# Altium schematic symbol library SchLib.SCHLIB: 65 symbols
Pins are listed as number, name and electrical type; pins without a type are passive.

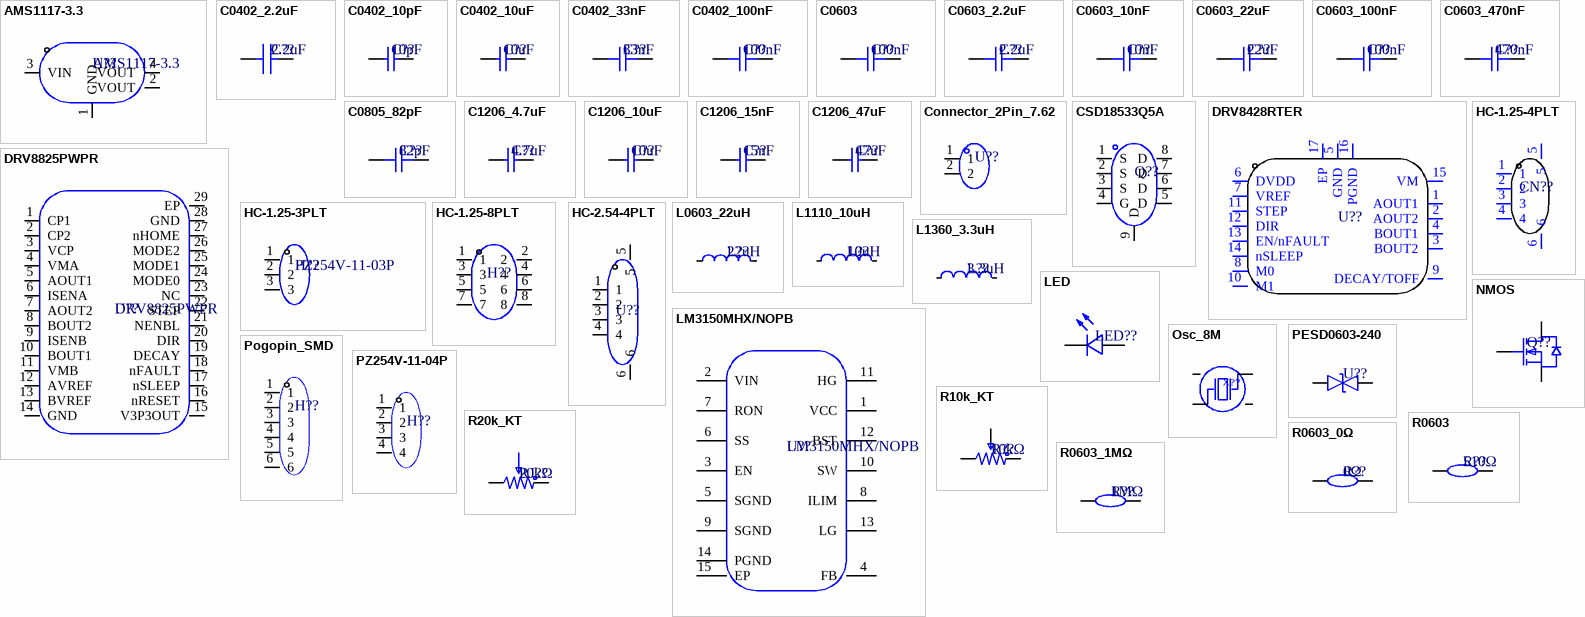
[diagram p0: symbols AMS1117-3.3 to R0603_1MΩ]

## AMS1117-3.3
designator U??
5V-3.3V; Manufacturer: AMS; Device: AMS1117-3.3_C6186; Add into BOM: yes; Output Type: 固定; Output Voltage: 3.3V; MAX Output Current: 1A; Power Supply Rejection Ratio (PSRR): 72dB@(120Hz); Dropout Voltage: 1.3V@(800mA); Output Polarity: 正极; Number of Outputs: 1; Symbol: AMS1117-3.3; LCSC Part Name: 输出3.3V 1A; Supplier Part: C6186; Manufacturer Part: AMS1117-3.3; Supplier Footprint: SOT-223; JLCPCB Part Class: Basic Part; Datasheet: https://atta.szlcsc.com/upload/public/pdf/source/20180727/C6186_7A095716F0823C02F1997A905E26C086.pdf; Supplier: LCSC; Convert to PCB: yes; Maximum Input Voltage: -; standby current: -; Noise: -; Feature: -; Operating Temperature: -; Comment_1: AMS1117-3.3
footprint AMS1117-3.3 (SOT-223-3_L6.5-W3.4-P2.30-LS7.0-BR)
pins: 1 GND, 2 VOUT, 3 VIN, 4 VOUT

## C0402_2.2uF
designator C??, comment 2.2uF
容值 2.2uF   精度 ±20%   额定电压 6.3V   材质(温度系数) X5R; Manufacturer: SAMSUNG(三星); Symbol: CL05A225MQ5NSNC; Add into BOM: yes; Device: CL05A225MQ5NSNC; LCSC Part Name: 2.2uF ±20% 6.3V; Supplier Part: C12530; Manufacturer Part: CL05A225MQ5NSNC; Supplier Footprint: 0402; JLCPCB Part Class: Basic Part; Datasheet: https://atta.szlcsc.com/upload/public/pdf/source/20160218/1457707763339.pdf; Supplier: LCSC; Convert to PCB: yes; Value: 2.2uF; Tolerance: ±20%; Voltage Rated: 6.3V; Temperature Coefficient: X5R; Comment_1: 2.2uF
footprint C0402_2.2uF (C0402)
pins: 1, 2

## C0402_10pF
designator C??, comment 10pF
0402电容; Manufacturer: FH(风华); Symbol: 0402CG100J500NT; Add into BOM: yes; Tolerance: ±5%; Voltage Rated: 50V; Temperature Coefficient: C0G; Device: 0402CG100J500NT; LCSC Part Name: 10pF ±5% 50V; Supplier Part: C1545; Manufacturer Part: 0402CG100J500NT; Supplier Footprint: 0402; JLCPCB Part Class: Extended Part; Datasheet: https://atta.szlcsc.com/upload/public/pdf/source/20200305/C486355_26A10D38EF8C2A5C37091D0039909270.pdf; Supplier: LCSC; Convert to PCB: yes; Value: 10pF; Comment_1: 10pF
footprint C0402_2.2uF (C0402)
pins: 1, 2

## C0402_10uF
designator C??, comment 10uF
0402电容; Manufacturer: SAMSUNG(三星); Symbol: CL05A106MQ5NUNC; Add into BOM: yes; Tolerance: ±20%; Voltage Rated: 6.3V; Temperature Coefficient: X5R; Device: CL05A106MQ5NUNC; LCSC Part Name: 10uF ±20% 6.3V; Supplier Part: C15525; Manufacturer Part: CL05A106MQ5NUNC; Supplier Footprint: 0402; JLCPCB Part Class: Basic Part; Datasheet: https://atta.szlcsc.com/upload/public/pdf/source/20220823/2B02EE04F8F211D38A52DCB16EB6BEBA.pdf; Supplier: LCSC; Convert to PCB: yes; Value: 10uF; Comment_1: 10uF
footprint C0402_2.2uF (C0402)
pins: 1, 2

## C0402_33nF
designator C??, comment 33nF
0402电容; Manufacturer: FOJAN(富捷); Symbol: GRM155R71H104KE14D; Add into BOM: yes; Tolerance: ±10%; Voltage Rated: 50V; Temperature Coefficient: X7R; Device: GRM155R71H104KE14D; LCSC Part Name: 33nF ±10% 50V; Supplier Part: C7419416; Manufacturer Part: GRM155R71H104KE14D; Supplier Footprint: 0402; JLCPCB Part Class: Extended Part; Datasheet: https://atta.szlcsc.com/upload/public/pdf/source/20180326/C77020_39BD49C951FF1AF0DB1F1FAC5AC1E401.pdf; Supplier: LCSC; Convert to PCB: yes; Value: 33nF; Comment_1: 33nF
footprint C0402_2.2uF (C0402)
pins: 1, 2

## C0402_100nF
designator C??, comment 100nF
0402电容; Manufacturer: muRata(村田); Symbol: GRM155R71H104KE14D; Add into BOM: yes; Tolerance: ±10%; Voltage Rated: 50V; Temperature Coefficient: X7R; Device: GRM155R71H104KE14D; LCSC Part Name: 100nF ±10% 50V; Supplier Part: C77020; Manufacturer Part: GRM155R71H104KE14D; Supplier Footprint: 0402; JLCPCB Part Class: Extended Part; Datasheet: https://atta.szlcsc.com/upload/public/pdf/source/20180326/C77020_39BD49C951FF1AF0DB1F1FAC5AC1E401.pdf; Supplier: LCSC; Convert to PCB: yes; Value: 100nF; Comment_1: 100nF
footprint C0402_2.2uF (C0402)
pins: 1, 2

## C0603
designator C??, comment 100nF
0603电容; Manufacturer: YAGEO(国巨); Symbol: CC0603KRX7R9BB104; Add into BOM: yes; Tolerance: ±10%; Voltage Rated: 50V; Temperature Coefficient: X7R; Name: 100nF; Device: CC0603KRX7R9BB104; LCSC Part Name: 100nF ±10% 50V; Supplier Part: C14663; Manufacturer Part: CC0603KRX7R9BB104; Supplier Footprint: 0603; JLCPCB Part Class: Basic Part; Datasheet: https://atta.szlcsc.com/upload/public/pdf/source/20180910/C282072_33301C7F631E79921B82A8DAC6BCC5B3.pdf; Supplier: LCSC; Convert to PCB: yes; Value: 100nF
footprint C0603
footprint C0603
pins: 1, 2

## C0603_2.2uF
designator C??, comment 2.2uF
0603电容; Manufacturer: SAMSUNG(三星); Symbol: CC0603KRX7R9BB104; Add into BOM: yes; Tolerance: ±10%; Voltage Rated: 16V; Temperature Coefficient: X5R; Name: 2.2uF; Device: CC0603KRX7R9BB104; LCSC Part Name: 2.2uF ±10% 16V; Supplier Part: C23630; Manufacturer Part: CC0603KRX7R9BB104; Supplier Footprint: 0603; JLCPCB Part Class: Basic Part; Datasheet: https://atta.szlcsc.com/upload/public/pdf/source/20180910/C282072_33301C7F631E79921B82A8DAC6BCC5B3.pdf; Supplier: LCSC; Convert to PCB: yes; Value: 2.2uF
footprint C0603
footprint C0603
pins: 1, 2

## C0603_10nF
designator C??, comment 10nF
0603电容; Manufacturer: SAMSUNG(三星); Symbol: CC0603KRX7R9BB104; Add into BOM: yes; Tolerance: ±10%; Voltage Rated: 50V; Temperature Coefficient: X7R; Name: 10nF; Device: CC0603KRX7R9BB104; LCSC Part Name: 10nF ±10% 50V; Supplier Part: C100042; Manufacturer Part: CC0603KRX7R9BB104; Supplier Footprint: 0603; JLCPCB Part Class: Basic Part; Datasheet: https://atta.szlcsc.com/upload/public/pdf/source/20180910/C282072_33301C7F631E79921B82A8DAC6BCC5B3.pdf; Supplier: LCSC; Convert to PCB: yes; Value: 10nF
footprint C0603
footprint C0603
pins: 1, 2

## C0603_22uF
designator C??, comment 22uF
0603电容; Manufacturer: SAMSUNG(三星); Symbol: CC0603KRX7R9BB104; Add into BOM: yes; Tolerance: ±20%; Voltage Rated: 16V; Temperature Coefficient: X5R; Name: 22uF; Device: CC0603KRX7R9BB104; LCSC Part Name: 22uF ±20% 16V; Supplier Part: C6119868; Manufacturer Part: CC0603KRX7R9BB104; Supplier Footprint: 0603; JLCPCB Part Class: Basic Part; Datasheet: https://atta.szlcsc.com/upload/public/pdf/source/20180910/C282072_33301C7F631E79921B82A8DAC6BCC5B3.pdf; Supplier: LCSC; Convert to PCB: yes; Value: 22uF
footprint C0603
footprint C0603
pins: 1, 2

## C0603_100nF
designator C??, comment 100nF
0603电容; Manufacturer: SAMSUNG(三星); Symbol: CC0603KRX7R9BB104; Add into BOM: yes; Tolerance: ±10%; Voltage Rated: 50V; Temperature Coefficient: X7R; Name: 100nF; Device: CC0603KRX7R9BB104; LCSC Part Name: 100nF ±10% 50V; Supplier Part: C6119867; Manufacturer Part: CC0603KRX7R9BB104; Supplier Footprint: 0603; JLCPCB Part Class: Basic Part; Datasheet: https://atta.szlcsc.com/upload/public/pdf/source/20180910/C282072_33301C7F631E79921B82A8DAC6BCC5B3.pdf; Supplier: LCSC; Convert to PCB: yes; Value: 100nF
footprint C0603
footprint C0603
pins: 1, 2

## C0603_470nF
designator C??, comment 470nF
0603电容; Manufacturer: SAMSUNG(三星); Symbol: CC0603KRX7R9BB104; Add into BOM: yes; Tolerance: ±10%; Voltage Rated: 25V; Temperature Coefficient: X7R; Name: 470nF; Device: CC0603KRX7R9BB104; LCSC Part Name: 470nF ±10% 25V; Supplier Part: C1623; Manufacturer Part: CC0603KRX7R9BB104; Supplier Footprint: 0603; JLCPCB Part Class: Basic Part; Datasheet: https://atta.szlcsc.com/upload/public/pdf/source/20180910/C282072_33301C7F631E79921B82A8DAC6BCC5B3.pdf; Supplier: LCSC; Convert to PCB: yes; Value: 470nF
footprint C0603
footprint C0603
pins: 1, 2

## C0805_82pF
designator C??, comment 82pF
0805电容; Manufacturer: YAGEO(国巨); Symbol: CC0805FRNPO9BN820; Add into BOM: yes; Tolerance: ±1%; Voltage Rated: 50V; Temperature Coefficient: NP0; Device: CC0805FRNPO9BN820; LCSC Part Name: 82pF ±1% 50V; Supplier Part: C527189; Manufacturer Part: CC0805FRNPO9BN820; Supplier Footprint: 0805; JLCPCB Part Class: Extended Part; Datasheet: https://atta.szlcsc.com/upload/public/pdf/source/20200508/C527189_AF3BD45761C292EB11165A31B5122D16.pdf; Supplier: LCSC; Convert to PCB: yes; Value: 82pF; Comment_1: 82pF
footprint C0805
pins: 1, 2

## C1206_4.7uF
designator C??, comment 4.7uF
1206电容; Manufacturer: SAMSUNG(三星); Symbol: CL31B475KBHNNNE; Add into BOM: yes; Tolerance: ±10%; Voltage Rated: 50V; Temperature Coefficient: X7R; Device: CL31B475KBHNNNE; LCSC Part Name: 4.7uF ±10% 50V; Supplier Part: C51205; Manufacturer Part: CL31B475KBHNNNE; Supplier Footprint: 1206; JLCPCB Part Class: Extended Part; Datasheet: https://atta.szlcsc.com/upload/public/pdf/source/20160218/1457707763339.pdf; Supplier: LCSC; Convert to PCB: yes; Value: 4.7uF; Comment_1: 4.7uF
footprint C1206
pins: 1, 2

## C1206_10uF
designator C??, comment 10uF
1206电容; Manufacturer: SAMSUNG(三星); Symbol: CL31B475KBHNNNE; Add into BOM: yes; Tolerance: ±10%; Voltage Rated: 50V; Temperature Coefficient: X7R; Device: CL31B475KBHNNNE; LCSC Part Name: 10uF ±10% 50V; Supplier Part: C89632; Manufacturer Part: CL31B475KBHNNNE; Supplier Footprint: 1206; JLCPCB Part Class: Extended Part; Datasheet: https://atta.szlcsc.com/upload/public/pdf/source/20160218/1457707763339.pdf; Supplier: LCSC; Convert to PCB: yes; Value: 10uF; Comment_1: 10uF
footprint C1206
pins: 1, 2

## C1206_15nF
designator C??, comment 15nF
1206电容; Manufacturer: Chinocera(华瓷); Symbol: CL31B475KBHNNNE; Add into BOM: yes; Tolerance: ±10%; Voltage Rated: 50V; Temperature Coefficient: X7R; Device: CL31B475KBHNNNE; LCSC Part Name: 15nF ±10% 50V; Supplier Part: C5186924; Manufacturer Part: CL31B475KBHNNNE; Supplier Footprint: 1206; JLCPCB Part Class: Extended Part; Datasheet: https://atta.szlcsc.com/upload/public/pdf/source/20160218/1457707763339.pdf; Supplier: LCSC; Convert to PCB: yes; Value: 15nF; Comment_1: 15nF
footprint C1206
pins: 1, 2

## C1206_47uF
designator C??, comment 47uF
1206电容; Manufacturer: HRE(芯声); Symbol: CL31B475KBHNNNE; Add into BOM: yes; Tolerance: ±20%; Voltage Rated: 25V; Temperature Coefficient: X5R; Device: CL31B475KBHNNNE; LCSC Part Name: 47uF ±20% 25V; Supplier Part: C6119973; Manufacturer Part: CL31B475KBHNNNE; Supplier Footprint: 1206; JLCPCB Part Class: Extended Part; Datasheet: https://atta.szlcsc.com/upload/public/pdf/source/20160218/1457707763339.pdf; Supplier: LCSC; Convert to PCB: yes; Value: 47uF; Comment_1: 47uF
footprint C1206
pins: 1, 2

## Connector_2Pin_7.62
designator U??, comment KF7.62-2P  (value not drawn)
栅栏式接线端子; Manufacturer: KEFA(科发); Add into BOM: yes; Barrier Type: 两面; Pitch: 7.62mm; Structure: 1x2P; Pin Location: 边脚; Current Rating (Max): 24A; Voltage Rating (Max): 450V; Wire Gauge - AWG: 12~22; Wire Gauge - mm2: 2.5; Number of PINs Per Row: 2; Symbol: KF7.62-2P; Device: KF7.62-2P; LCSC Part Name: 7.62mm 1x2P 每排P数:2 排数:1 直针 边脚 黑色; Supplier Part: C707824; Manufacturer Part: KF7.62-2P; Supplier Footprint: 插件,P=7.62mm; JLCPCB Part Class: Extended Part; Datasheet: https://atta.szlcsc.com/upload/public/pdf/source/20230331/11104CA872B730518BFDFC9F574D6E42.pdf; Supplier: LCSC; Convert to PCB: yes; Mounting Style: 直针; Number of Pins: 2P; Number of Rows: 1; Operating Temperature Range: -40℃~+105℃; Color: 黑色; Comment_1: KF7.62-2P
footprint Connector_2Pin_7.62 (CONN-TH_KF7.62-2P)
pins: 1, 2

## CSD18533Q5A
designator Q??  (value not drawn)
NMOS 漏源电压(Vdss) 60V   连续漏极电流(Id) 17A；100A   功率(Pd) 3.2W；116W   导通电阻(RDS(on)@Vgs,Id) 5.9mΩ@10V,18A; Manufacturer: TI(德州仪器); Add into BOM: yes; Type: 1个N沟道; Gate Threshold Voltage (Vgs(th)@Id): 2.3V@250uA; Total Gate Charge (Qg@Vgs): 36nC@10V; Input Capacitance (Ciss@Vds): 2.75nF@30V; Symbol: CSD18533Q5A; Device: CSD18533Q5A; LCSC Part Name: 1个N沟道 耐压:60V 电流:17A 电流:100A; Supplier Part: C130170; Manufacturer Part: CSD18533Q5A; Supplier Footprint: VSONP-8(5x6); JLCPCB Part Class: Extended Part; Datasheet: https://www.ti.com/cn/lit/gpn/csd18533q5a; Supplier: LCSC; Convert to PCB: yes; Drain Source Voltage (Vdss): 60V; Continuous Drain Current (Id): 17A；100A; Power Dissipation (Pd): 3.2W；116W; Drain Source On Resistance (RDS(on)@Vgs,Id): 5.9mΩ@10V,18A; Operating Temperature: -55℃~+150℃@(Tj); Comment_1: CSD18533Q5A
footprint CSD18533Q5A (PQFN-8_L5.8-W4.9-P1.27-LS6.0-BL)
pins: 1 S, 2 S, 3 S, 4 G, 5 D, 6 D, 7 D, 8 D, 9 D

## DRV8428RTER
designator U??  (value not drawn)
步进电机驱动芯片; Manufacturer: TI(德州仪器); Add into BOM: yes; Symbol: DRV8428RTER; Device: DRV8428RTER; LCSC Part Name: DRV8428RTER; Supplier Part: C2857955; Manufacturer Part: DRV8428RTER; Supplier Footprint: WQFN-16-EP(3x3); JLCPCB Part Class: Extended Part; Datasheet: https://www.ti.com/cn/lit/gpn/drv8428; Supplier: LCSC; Convert to PCB: yes; Comment_1: DRV8428RTER
footprint DRV8428RTER (WQFN-16_L3.0-W3.0-P0.50-BL-EP1.7)
pins: 1 AOUT1, 2 AOUT2, 3 BOUT2, 4 BOUT1, 5 GND, 6 DVDD, 7 VREF, 8 M0, 9 DECAY/TOFF, 10 M1, 11 STEP, 12 DIR, 13 EN/nFAULT, 14 nSLEEP, 15 VM, 16 PGND, 17 EP

## DRV8825PWPR
designator U??
步进电机驱动芯片; Manufacturer: TI(德州仪器); Add into BOM: yes; Symbol: DRV8825PWPR; Device: DRV8825PWPR; LCSC Part Name: 2.5A 45V电机驱动芯片; Supplier Part: C81582; Manufacturer Part: DRV8825PWPR; Supplier Footprint: HTSSOP-28-EP; JLCPCB Part Class: Extended Part; Datasheet: https://www.ti.com/cn/lit/gpn/drv8825; Supplier: LCSC; Convert to PCB: yes; Comment_1: DRV8825PWPR
footprint DRV8825PWPR (HTSSOP-28_L9.7-W4.4-P0.65-LS6.4-BL-EP)
pins: 1 CP1, 2 CP2, 3 VCP, 4 VMA, 5 AOUT1, 6 ISENA, 7 AOUT2, 8 BOUT2, 9 ISENB, 10 BOUT1, 11 VMB, 12 AVREF, 13 BVREF, 14 GND, 15 V3P3OUT, 16 nRESET, 17 nSLEEP, 18 nFAULT, 19 DECAY, 20 DIR, 21 NENBL, 22 STEP, 23 NC, 24 MODE0, 25 MODE1, 26 MODE2, 27 nHOME, 28 GND, 29 EP

## HC-1.25-3PLT
designator H??, comment PZ254V-11-03P
排针3P; Manufacturer: XFCN(兴飞); Symbol: PZ254V-11-03P_C2937625; Add into BOM: yes; Pin Structure: 1x3P; Pitch: 2.54mm; Circluar Pins/Square Pins: 方针; Current Rating (Max): 3A; Voltage Rating (Max): 250V; Device: PZ254V-11-03P; LCSC Part Name: 间距:2.54mm 1x3P 直插 方针; Supplier Part: C2937625; Manufacturer Part: PZ254V-11-03P; Supplier Footprint: 插件,P=2.54mm; JLCPCB Part Class: Extended Part; Datasheet: https://atta.szlcsc.com/upload/public/pdf/source/20200309/C492402_8335C3D49C4E4C618838D59BB1D024C1.pdf; Supplier: LCSC; Convert to PCB: yes; Row Spacing: -; Mounting Type: 直插; Number of Rows: 单排; Number of Pins: 3P; Length of Mating Pin: 6mm; Insulation Height: 2.5mm; Length of End Connection Pin: 3mm; Operating Temperature Range: -40℃~+105℃; Color: 黑色; Comment_1: PZ254V-11-03P
footprint HC-1.25-3PLT (HDR-TH_3P-P2.54-V-M)
pins: 1, 2, 3

## HC-1.25-4PLT
designator CN??  (value not drawn)
插针结构: 1x4P  间距: 1.25mm  安装方式: 立贴  总PIN数: 4P; Manufacturer: HCTL(华灿天禄); Add into BOM: yes; Number of PINs Per Row: 4; Current Rating (Max): 2A; Symbol: HC-1.25-4PLT; Device: HC-1.25-4PLT; LCSC Part Name: 1x4P 间距:1.25mm 立贴; Supplier Part: C2845390; Manufacturer Part: HC-1.25-4PLT; Supplier Footprint: SMD,P=1.25mm; JLCPCB Part Class: Extended Part; Datasheet: https://atta.szlcsc.com/upload/public/pdf/source/20230707/8E5913B5A3195C18F5EE12EA4CB86B82.pdf; Supplier: LCSC; Convert to PCB: yes; Pins Structure: 1x4P; Pitch: 1.25mm; Mounting Style: 立贴; Reference Series: -; Number of Pins: 4P; Number of Rows: 1; Row Spacing: -; Contact Material: 黄铜; Contact Plating: 锡; Operating Temperature Range: -25℃~+85℃; Comment_1: HC-1.25-4PLT
footprint HC-1.25-4PLT (CONN-SMD_4P-P1.25_HCTL_HC-1.25-4PLT)
pins: 1, 2, 3, 4, 5, 6

## HC-1.25-8PLT
designator H??, comment PZ254V-12-8P  (value not drawn)
排针8P; Manufacturer: XFCN(兴飞); Add into BOM: yes; Pin Structure: 2x4P; Pitch: 2.54mm; Circluar Pins/Square Pins: 方针; Symbol: PZ254V-12-8P; Device: PZ254V-12-8P; LCSC Part Name: 间距:2.54mm 2x4P 直插 方针; Supplier Part: C492421; Manufacturer Part: PZ254V-12-8P; Supplier Footprint: 插件,P=2.54mm; JLCPCB Part Class: Extended Part; Datasheet: https://atta.szlcsc.com/upload/public/pdf/source/20200309/C492421_DC8A206AF99CD7755BD4A5B0BC48200B.pdf; Supplier: LCSC; Convert to PCB: yes; Row Spacing: 2.54mm; Mounting Type: 直插; Number of Rows: 双排; Number of Pins: 8P; Current Rating (Max): -; Voltage Rating (Max): -; Length of Mating Pin: 6mm; Insulation Height: 2.5mm; Length of End Connection Pin: 3mm; Contact Material: 黄铜; Contact Plating: -; Operating Temperature Range: -40℃~+105℃; Color: 黑色; Comment_1: PZ254V-12-8P
footprint HC-1.25-8PLT (HDR-TH_8P-P2.54-V-M-R2-C4-S2.54)
pins: 1, 2, 3, 4, 5, 6, 7, 8

## HC-2.54-4PLT
designator U??, comment ZX-XH2.54-4PLT  (value not drawn)
插针1x4P; Manufacturer: Megastar(兆星); Add into BOM: yes; Pins Structure: 1x4P; Pitch: 2.54mm; Reference Series: XH; Number of PINs Per Row: 4; Current Rating (Max): 3A; Symbol: ZX-XH2.54-4PLT; Device: ZX-XH2.54-4PLT; LCSC Part Name: ZX-XH2.54-4PLT; Supplier Part: C7429682; Manufacturer Part: ZX-XH2.54-4PLT; Supplier Footprint: SMD,P=2.54mm; JLCPCB Part Class: Extended Part; Datasheet: https://atta.szlcsc.com/upload/public/pdf/source/20230619/0839CF43A4681B40F50854985C226EB8.pdf; Supplier: LCSC; Convert to PCB: yes; Mounting Style: 立贴; Number of Pins: 4P; Number of Rows: 1; Row Spacing: -; Contact Material: 黄铜; Contact Plating: 锡; Operating Temperature Range: -25℃~+85℃; Comment_1: ZX-XH2.54-4PLT
footprint HC-2.54-4PLT (CONN-SMD_4P-P2.54_C9900012758)
pins: 1, 2, 3, 4, 5, 6

## L0603_22uH
designator L??, comment 22uH
0603电感; Manufacturer: TDK; Symbol: MLZ1608M220WT000; Add into BOM: yes; Tolerance: ±20%; Saturation Current (Isat): 55mA; DC Resistance (DCR): 2.4Ω; Device: MLZ1608M220WT000; LCSC Part Name: 22uH ±20% 55mA; Supplier Part: C383393; Manufacturer Part: MLZ1608M220WT000; Supplier Footprint: 0603; JLCPCB Part Class: Extended Part; Datasheet: https://atta.szlcsc.com/upload/public/pdf/source/20160918/1474166926388.pdf; Supplier: LCSC; Convert to PCB: yes; Value: 22uH; Rated Current: -; Q @ Freq: -; Frequency - Self Resonant: -; Ratings: -; Comment_1: 22uH
footprint L0603_22uH (L0603)
pins: 1, 2

## L1110_10uH
designator L??, comment 10uH
功率电感; Manufacturer: YJYCOIN(益嘉源); Symbol: YSPI1050-100M; Add into BOM: yes; Tolerance: ±20%; Rated Current: 6A; DC Resistance (DCR): 19.3mΩ; Device: YSPI1050-100M; LCSC Part Name: 10uH ±20%; Supplier Part: C497897; Manufacturer Part: YSPI1050-100M; Supplier Footprint: SMD,11x10mm; JLCPCB Part Class: Extended Part; Datasheet: https://atta.szlcsc.com/upload/public/pdf/source/20240507/CDF618C6C30EFC34B42EA1108EE1A6A7.pdf; Supplier: LCSC; Convert to PCB: yes; Value: 10uH; Comment_1: 10uH
footprint L1110_10uH (IND-SMD_L11.5-W10.0_SMMS1040)
pins: 1, 2

## L1360_3.3uH
designator L??, comment 3.3uH
电感值 3.3uH   精度 ±20%   额定电流 16A   饱和电流(Isat) 22A   直流电阻(DCR) 6mΩ   类型 一体成型电感; Manufacturer: SXN(顺翔诺); Symbol: SMMS1360-3R3M; Add into BOM: yes; Device: SMMS1360-3R3M; LCSC Part Name: 3.3uH ±20% 22A; Supplier Part: C149526; Manufacturer Part: SMMS1360-3R3M; Supplier Footprint: SMD; JLCPCB Part Class: Extended Part; Datasheet: https://atta.szlcsc.com/upload/public/pdf/source/20210810/BBF24330FB2F5029F637830BA9C42C0D.pdf; Supplier: LCSC; Convert to PCB: yes; Value: 3.3uH; Tolerance: ±20%; Rated Current: 16A; Saturation Current (Isat): 22A; DC Resistance (DCR): 6mΩ; Type: 一体成型电感; Comment_1: 3.3uH
footprint L1360 (IND-SMD_L13.8-W12.6)
pins: 1, 2

## LED
designator LED??, comment MHT192UGCT  (value not drawn)
发光二极管 绿色; Manufacturer: MEIHUA(美华); Add into BOM: yes; Emitted Color: 翠绿色; Power Dissipation: 60mW; Forward Current: 20mA; Dominant Wavelength: 515nm~530nm; Peak Wavelength: 518nm; Lens Color: 无色透明透镜; Viewing Angle: 120°; Symbol: MHT192UGCT; Device: MHT192UGCT; LCSC Part Name: 翠绿; Supplier Part: C389519; Manufacturer Part: MHT192UGCT; Supplier Footprint: 0603; JLCPCB Part Class: Extended Part; Datasheet: https://atta.szlcsc.com/upload/public/pdf/source/20190515/C389519_7BC27E831414348C8AF19AF18EE4BF58.pdf; Supplier: LCSC; Convert to PCB: yes; Diode Configuration: -; Color Temperature: -; Mounting Sytle: -; Operating Temperature: -40℃~+85℃; Comment_1: MHT192UGCT
footprint LED (LED0603-RD_GREEN)
pins: 1 -, 2 +

## LM3150MHX/NOPB
designator U??
DC-DC电源芯片   功能类型 降压型   输入电压 6V~42V   输出电流 12A   开关频率 1MHz; Manufacturer: TI(德州仪器); Add into BOM: yes; Synchronous Rectification: 是; Number of Outputs: 1; Topology: 降压式; Symbol: LM3150MHX; Device: LM3150MHX/NOPB; LCSC Part Name: LM3150MHX/NOPB; Supplier Part: C48112; Manufacturer Part: LM3150MHX/NOPB; Supplier Footprint: HTSSOP-14-EP; JLCPCB Part Class: Extended Part; Datasheet: https://www.ti.com/cn/lit/gpn/lm3150; Supplier: LCSC; Convert to PCB: yes; Function: 降压型; Input Voltage: 6V~42V; Output Current (Max): 12A; Switching Frequency: 1MHz; Operating Temperature: -40℃~+125℃@(TJ); Comment_1: LM3150MHX/NOPB
footprint LM3150MHX/NOPB (HTSSOP-14_L5.0-W4.4-P0.65-LS6.4-BL-EP)
pins: 1 VCC, 2 VIN, 3 EN, 4 FB, 5 SGND, 6 SS, 7 RON, 8 ILIM, 9 SGND, 10 SW, 11 HG, 12 BST, 13 LG, 14 PGND, 15 EP

## NMOS
designator Q??, comment IRLR8726TRPBF  (value not drawn)
1个N沟道 耐压:30V 电流:86A; Manufacturer: Infineon(英飞凌); Add into BOM: yes; Drain Source Voltage (Vdss): 30V; Continuous Drain Current (Id): 86A; Power Dissipation (Pd): 75W; Drain Source On Resistance (RDS(on)@Vgs,Id): 5.8mΩ@10V,25A; Gate Threshold Voltage (Vgs(th)@Id): 2.35V@50uA; Total Gate Charge (Qg@Vgs): 23nC@4.5V; Input Capacitance (Ciss@Vds): 2.15nF@15V; Symbol: IRLR8726TRPBF; Device: IRLR8726TRPBF; LCSC Part Name: 1个N沟道 耐压:30V 电流:86A; Supplier Part: C81137; Manufacturer Part: IRLR8726TRPBF; Supplier Footprint: TO-252-2(DPAK); JLCPCB Part Class: Extended Part; Datasheet: https://atta.szlcsc.com/upload/public/pdf/source/20170518/1495085732211.pdf; Supplier: LCSC; Convert to PCB: yes; Type: 1个N沟道; Operating Temperature: -55℃~+175℃@(Tj); Comment_1: IRLR8726TRPBF
footprint NMOS (TO-252-2_L6.6-W6.1-P4.58-LS9.9-TL)
pins: 1 G, 2 D, 3 S

## Osc_8M
designator X??, comment 8MHz  (value not drawn)
8Mhz晶振; Manufacturer: YJX(雅晶鑫); Symbol: TAXM8M4RDBCCT2T; Add into BOM: yes; Crystal Type: 贴片晶振; Normal temperature Frequency Tolerance: ±10ppm; External load capacitor: 10pF; Frequency Stability(Full temperature range): ±15ppm; Equivalent Series Resistance (ESR): 250Ω; Device: TAXM8M4RDBCCT2T; LCSC Part Name: 8MHz ±10ppm 10pF; Supplier Part: C400090; Manufacturer Part: TAXM8M4RDBCCT2T; Supplier Footprint: SMD3225-4P; JLCPCB Part Class: Extended Part; Datasheet: https://atta.szlcsc.com/upload/public/pdf/source/20190626/C400090_CF95B89E745AFE4EF2E392EF8AC009D6.pdf; Supplier: LCSC; Convert to PCB: yes; Value: 8MHz; Operating Temperature: -40℃~+85℃; Comment_1: 8MHz
footprint Osc_8M (OSC-SMD_4P-L3.2-W2.5-BL)
pins: 1, 2, 3, 4

## PESD0603-240
designator U??  (value not drawn)
ESD; Manufacturer: Littelfuse(美国力特); Symbol: PESD0603-240_C2929617; Add into BOM: yes; Maximum Clamping Voltage: 45V; Number of Lines: 单路; Device: PESD0603-240_C2929617; LCSC Part Name: PESD0603-240; Supplier Part: C2929617; Manufacturer Part: PESD0603-240; Supplier Footprint: 0603; JLCPCB Part Class: Extended Part; Datasheet: https://atta.szlcsc.com/upload/public/pdf/source/20180516/C207186_7CE2F9DCABF8CE4AA3105E54FFDB24F6.pdf; Supplier: LCSC; Convert to PCB: yes; Breakdown Voltage: -; Type: ESD; Comment_1: PESD0603-240
footprint PESD0603-240 (D0603-BI)
pins: 1, 2

## Pogopin_SMD
designator H??
贴片Pogopin_SMD
footprint Pogopin_SMD
pins: 1, 2, 3, 4, 5, 6

## PZ254V-11-04P
designator H??  (value not drawn)
排针4P; Manufacturer: XFCN(兴飞); Symbol: PZ254V-11-04P_C2691448; Add into BOM: yes; Pin Structure: 1x4P; Pitch: 2.54mm; Circluar Pins/Square Pins: 方针; Current Rating (Max): 3A; Voltage Rating (Max): 250V; Name: PZ254V-11-04P; Device: PZ254V-11-04P; LCSC Part Name: 间距:2.54mm 1x4P 直插 方针; Supplier Part: C2691448; Manufacturer Part: PZ254V-11-04P; Supplier Footprint: 插件,P=2.54mm; JLCPCB Part Class: Extended Part; Datasheet: https://atta.szlcsc.com/upload/public/pdf/source/20200309/C492403_F9F19131791D08044AD4F84F8E751A34.pdf; Supplier: LCSC; Convert to PCB: yes; Row Spacing: -; Mounting Type: 直插; Number of Rows: 单排; Number of Pins: 4P; Length of Mating Pin: 6mm; Insulation Height: 2.5mm; Length of End Connection Pin: 3mm; Contact Material: -; Operating Temperature Range: -40℃~+105℃; Color: 黑色
footprint PZ254V-11-04P (HDR-TH_4P-P2.54-V-M)
pins: 1, 2, 3, 4

## R10k_KT
designator R??, comment 10kΩ
可调电阻/电位器   阻值 10kΩ   精度 ±25%   额定电压 -   功率 150mW   温度系数 ±250ppm/℃   圈数 1; Manufacturer: BOURNS; Symbol: TC33X-2-103E; Add into BOM: yes; Turns: 1; Device: TC33X-2-103E; LCSC Part Name: 10kΩ ±25%; Supplier Part: C719176; Manufacturer Part: TC33X-2-103E; Supplier Footprint: SMD-3P,3.8x3.6mm; JLCPCB Part Class: Extended Part; Datasheet: https://atta.szlcsc.com/upload/public/pdf/source/20200810/C720646_BB66A75E654D5E1D30127FF45BCD3C26.pdf; Supplier: LCSC; Convert to PCB: yes; Value: 10kΩ; Tolerance: ±25%; Rated Voltage: -; Power(Watts): 150mW; Temperature Coefficient: ±250ppm/℃; Comment_1: 10kΩ
footprint R10k_KT (RES-ADJ-SMD_3P-L3.0-W3.8-P1.75-BR)
pins: 1, 2, 3

## R20k_KT
designator RJ??, comment 20kΩ
可调电阻，20K; Manufacturer: BOURNS; Symbol: TC33X-2-203E; Add into BOM: yes; Tolerance: ±25%; Power(Watts): 100mW; Temperature Coefficient: ±250ppm/℃; Turns: 1; Device: TC33X-2-203E; LCSC Part Name: 20kΩ ±25%; Supplier Part: C720648; Manufacturer Part: TC33X-2-203E; Supplier Footprint: SMD-3P,3.8x3.6mm; JLCPCB Part Class: Extended Part; Datasheet: https://atta.szlcsc.com/upload/public/pdf/source/20200810/C720646_BB66A75E654D5E1D30127FF45BCD3C26.pdf; Supplier: LCSC; Convert to PCB: yes; Value: 20kΩ; Rated Voltage: -; Comment_1: 20kΩ
footprint R20k_KT (RES-ADJ-SMD_TC33X-2-104E)
pins: 1, 2, 3

## R0603
designator R??, comment 510Ω
0603电阻; Manufacturer: UNI-ROYAL(厚声); Symbol: 0603WAF5100T5E; Add into BOM: yes; Tolerance: ±1%; Power(Watts): 100mW; Overload Voltage (Max): 75V; Temperature Coefficient: ±100ppm/℃; Name: 510Ω; Device: 0603WAF5100T5E; LCSC Part Name: 510Ω ±1% 100mW 厚膜电阻; Supplier Part: C23193; Manufacturer Part: 0603WAF5100T5E; Supplier Footprint: 0603; JLCPCB Part Class: Basic Part; Datasheet: https://atta.szlcsc.com/upload/public/pdf/source/20200306/C422600_1E6D84923E4A46A82E41ADD87F860B5C.pdf; Supplier: LCSC; Convert to PCB: yes; Type: 厚膜电阻; Value: 510Ω; Operating Temperature Range: -55℃~+155℃
footprint R0603 (0603)
pins: 1, 2

## R0603_0Ω
designator R??, comment 0Ω
阻值 0Ω   精度 ±1%   功率 100mW   最大工作电压 75V   工作温度范围 -55℃~+155℃; Manufacturer: UNI-ROYAL(厚声); Symbol: 0603WAF0000T5E; Add into BOM: yes; Device: 0603WAF0000T5E; LCSC Part Name: 0Ω ±1% 100mW 厚膜电阻; Supplier Part: C21189; Manufacturer Part: 0603WAF0000T5E; Supplier Footprint: 0603; JLCPCB Part Class: Basic Part; Datasheet: https://atta.szlcsc.com/upload/public/pdf/source/20200306/C422600_1E6D84923E4A46A82E41ADD87F860B5C.pdf; Supplier: LCSC; Convert to PCB: yes; Type: 厚膜电阻; Value: 0Ω; Tolerance: ±1%; Power(Watts): 100mW; Overload Voltage (Max): 75V; Operating Temperature Range: -55℃~+155℃; Comment_1: 0Ω
footprint R0603 (0603)
pins: 1, 2

## R0603_1MΩ
designator R??, comment 1MΩ
0603电阻; Manufacturer: UNI-ROYAL(厚声); Symbol: 0603WAF5100T5E; Add into BOM: yes; Tolerance: ±1%; Power(Watts): 100mW; Overload Voltage (Max): 75V; Temperature Coefficient: ±100ppm/℃; Name: 1MΩ; Device: 0603WAF5100T5E; LCSC Part Name: 1MΩ ±1% 100mW 厚膜电阻; Supplier Part: C22935; Manufacturer Part: 0603WAF5100T5E; Supplier Footprint: 0603; JLCPCB Part Class: Basic Part; Datasheet: https://atta.szlcsc.com/upload/public/pdf/source/20200306/C422600_1E6D84923E4A46A82E41ADD87F860B5C.pdf; Supplier: LCSC; Convert to PCB: yes; Type: 厚膜电阻; Value: 1MΩ; Operating Temperature Range: -55℃~+155℃
footprint R0603 (0603)
pins: 1, 2

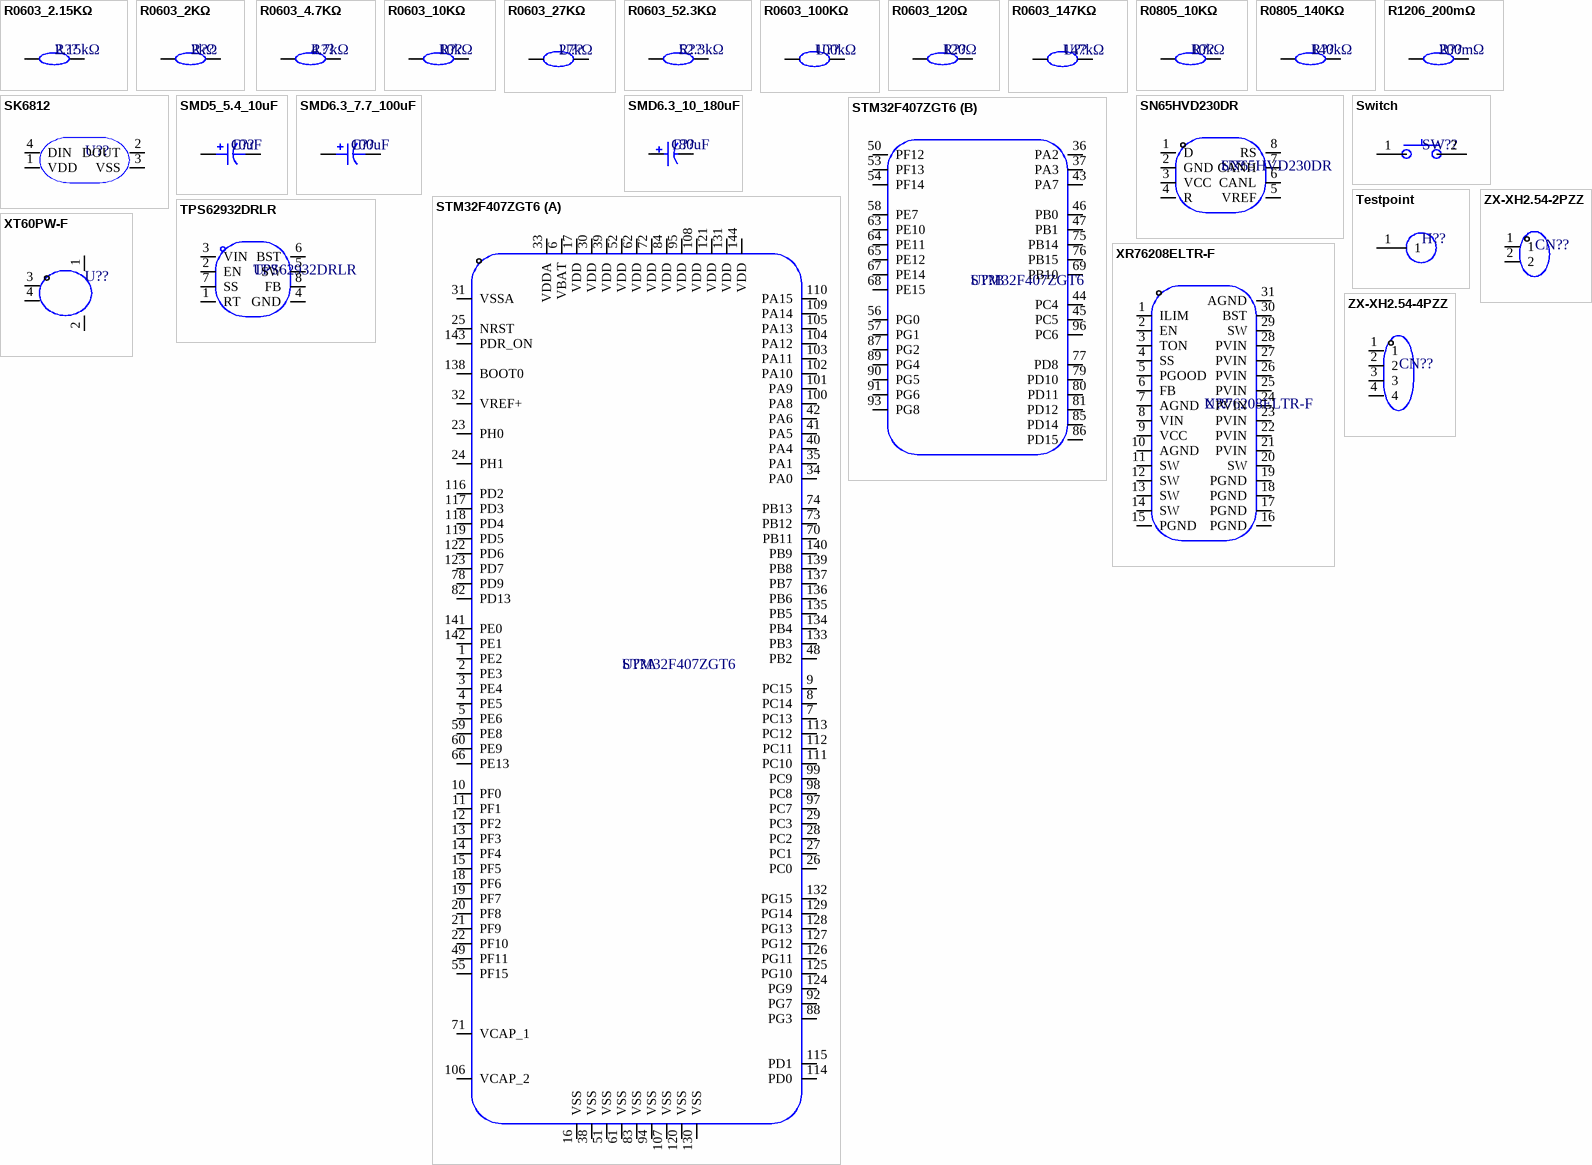
[diagram p1: symbols R0603_2.15KΩ to ZX-XH2.54-4PZZ]

## R0603_2.15KΩ
designator R??, comment 2.15kΩ
0603电阻; Manufacturer: YAGEO(国巨); Symbol: 0603WAF2001T5E; Add into BOM: yes; Tolerance: ±1%; Power(Watts): 100mW; Overload Voltage (Max): 75V; Temperature Coefficient: ±100ppm/℃; Device: 0603WAF2001T5E; LCSC Part Name: 2.15kΩ ±1% 100mW 厚膜电阻; Supplier Part: C273772; Manufacturer Part: 0603WAF2001T5E; Supplier Footprint: 0603; JLCPCB Part Class: Basic Part; Datasheet: https://atta.szlcsc.com/upload/public/pdf/source/20200306/C422600_1E6D84923E4A46A82E41ADD87F860B5C.pdf; Supplier: LCSC; Convert to PCB: yes; Type: 厚膜电阻; Value: 2.15kΩ; Operating Temperature Range: -55℃~+155℃; Comment_1: 2.15kΩ
footprint R0603 (0603)
pins: 1, 2

## R0603_2KΩ
designator R??, comment 2kΩ
0603电阻; Manufacturer: UNI-ROYAL(厚声); Symbol: 0603WAF2001T5E; Add into BOM: yes; Tolerance: ±1%; Power(Watts): 100mW; Overload Voltage (Max): 75V; Temperature Coefficient: ±100ppm/℃; Device: 0603WAF2001T5E; LCSC Part Name: 2kΩ ±1% 100mW 厚膜电阻; Supplier Part: C22975; Manufacturer Part: 0603WAF2001T5E; Supplier Footprint: 0603; JLCPCB Part Class: Basic Part; Datasheet: https://atta.szlcsc.com/upload/public/pdf/source/20200306/C422600_1E6D84923E4A46A82E41ADD87F860B5C.pdf; Supplier: LCSC; Convert to PCB: yes; Type: 厚膜电阻; Value: 2kΩ; Operating Temperature Range: -55℃~+155℃; Comment_1: 2kΩ
footprint R0603 (0603)
pins: 1, 2

## R0603_4.7KΩ
designator R??, comment 4.7kΩ
0603电阻; Manufacturer: UNI-ROYAL(厚声); Symbol: 0603WAF1002T5E; Add into BOM: yes; Tolerance: ±1%; Power(Watts): 100mW; Overload Voltage (Max): 75V; Temperature Coefficient: ±100ppm/℃; Device: 0603WAF1002T5E; LCSC Part Name: 厚膜电阻 4.7kΩ ±1% 100mW; Supplier Part: C23162; Manufacturer Part: 0603WAF1002T5E; Supplier Footprint: 0603; JLCPCB Part Class: Basic Part; Datasheet: https://atta.szlcsc.com/upload/public/pdf/source/20200306/C422600_1E6D84923E4A46A82E41ADD87F860B5C.pdf; Supplier: LCSC; Convert to PCB: yes; Type: 厚膜电阻; Value: 4.7kΩ; Operating Temperature Range: -55℃~+155℃; Comment_1: 4.7kΩ
footprint R0603_10KΩ (R0603)
pins: 1, 2

## R0603_10KΩ
designator R??, comment 10kΩ
0603电阻; Manufacturer: UNI-ROYAL(厚声); Symbol: 0603WAF1002T5E; Add into BOM: yes; Tolerance: ±1%; Power(Watts): 100mW; Overload Voltage (Max): 75V; Temperature Coefficient: ±100ppm/℃; Device: 0603WAF1002T5E; LCSC Part Name: 厚膜电阻 10kΩ ±1% 100mW; Supplier Part: C25804; Manufacturer Part: 0603WAF1002T5E; Supplier Footprint: 0603; JLCPCB Part Class: Basic Part; Datasheet: https://atta.szlcsc.com/upload/public/pdf/source/20200306/C422600_1E6D84923E4A46A82E41ADD87F860B5C.pdf; Supplier: LCSC; Convert to PCB: yes; Type: 厚膜电阻; Value: 10kΩ; Operating Temperature Range: -55℃~+155℃; Comment_1: 10kΩ
footprint R0603_10KΩ (R0603)
pins: 1, 2

## R0603_27KΩ
designator U??, comment 27kΩ
0603电阻; Manufacturer: UNI-ROYAL(厚声); Symbol: FRC0603F1473TS; Add into BOM: yes; Tolerance: ±1%; Power(Watts): 100mW; Overload Voltage (Max): 75V; Temperature Coefficient: ±100ppm/℃; Device: FRC0603F1473TS; LCSC Part Name: 27kΩ ±1% 100mW 厚膜电阻; Supplier Part: C22967; Manufacturer Part: FRC0603F1473TS; Supplier Footprint: 0603; JLCPCB Part Class: Extended Part; Datasheet: https://atta.szlcsc.com/upload/public/pdf/source/20211221/925EC7D7225764EE0046F22065062C87.pdf; Supplier: LCSC; Convert to PCB: yes; Type: 厚膜电阻; Value: 27kΩ; Operating Temperature Range: -55℃~+155℃; Comment_1: 27kΩ
footprint R0603 (0603)
pins: 1, 2

## R0603_52.3KΩ
designator R??, comment 52.3kΩ
0603电阻; Manufacturer: FOJAN(富捷); Symbol: 0603WAF1002T5E; Add into BOM: yes; Tolerance: ±1%; Power(Watts): 100mW; Overload Voltage (Max): 75V; Temperature Coefficient: ±100ppm/℃; Device: 0603WAF1002T5E; LCSC Part Name: 厚膜电阻 52.3kΩ ±1% 100mW; Supplier Part: C2933235; Manufacturer Part: 0603WAF1002T5E; Supplier Footprint: 0603; JLCPCB Part Class: Basic Part; Datasheet: https://atta.szlcsc.com/upload/public/pdf/source/20200306/C422600_1E6D84923E4A46A82E41ADD87F860B5C.pdf; Supplier: LCSC; Convert to PCB: yes; Type: 厚膜电阻; Value: 52.3kΩ; Operating Temperature Range: -55℃~+155℃; Comment_1: 52.3kΩ
footprint R0603_10KΩ (R0603)
pins: 1, 2

## R0603_100KΩ
designator U??, comment 100kΩ
0603电阻; Manufacturer: FOJAN(富捷); Symbol: FRC0603F1473TS; Add into BOM: yes; Tolerance: ±1%; Power(Watts): 100mW; Overload Voltage (Max): 75V; Temperature Coefficient: ±100ppm/℃; Device: FRC0603F1473TS; LCSC Part Name: 100kΩ ±1% 100mW 厚膜电阻; Supplier Part: C25803; Manufacturer Part: FRC0603F1473TS; Supplier Footprint: 0603; JLCPCB Part Class: Extended Part; Datasheet: https://atta.szlcsc.com/upload/public/pdf/source/20211221/925EC7D7225764EE0046F22065062C87.pdf; Supplier: LCSC; Convert to PCB: yes; Type: 厚膜电阻; Value: 100kΩ; Operating Temperature Range: -55℃~+155℃; Comment_1: 100kΩ
footprint R0603 (0603)
pins: 1, 2

## R0603_120Ω
designator R??, comment 120Ω
0603电阻; Manufacturer: UNI-ROYAL(厚声); Symbol: 0603WAF1200T5E; Add into BOM: yes; Tolerance: ±1%; Power(Watts): 100mW; Overload Voltage (Max): 75V; Temperature Coefficient: ±100ppm/℃; Device: 0603WAF1200T5E; LCSC Part Name: 120Ω ±1% 100mW 厚膜电阻; Supplier Part: C22787; Manufacturer Part: 0603WAF1200T5E; Supplier Footprint: 0603; JLCPCB Part Class: Basic Part; Datasheet: https://atta.szlcsc.com/upload/public/pdf/source/20200306/C422600_1E6D84923E4A46A82E41ADD87F860B5C.pdf; Supplier: LCSC; Convert to PCB: yes; Type: 厚膜电阻; Value: 120Ω; Operating Temperature Range: -55℃~+155℃; Comment_1: 120Ω
footprint R0603 (0603)
pins: 1, 2

## R0603_147KΩ
designator U??, comment 147kΩ
0603电阻; Manufacturer: FOJAN(富捷); Symbol: FRC0603F1473TS; Add into BOM: yes; Tolerance: ±1%; Power(Watts): 100mW; Overload Voltage (Max): 75V; Temperature Coefficient: ±100ppm/℃; Device: FRC0603F1473TS; LCSC Part Name: 147kΩ ±1% 100mW 厚膜电阻; Supplier Part: C2998060; Manufacturer Part: FRC0603F1473TS; Supplier Footprint: 0603; JLCPCB Part Class: Extended Part; Datasheet: https://atta.szlcsc.com/upload/public/pdf/source/20211221/925EC7D7225764EE0046F22065062C87.pdf; Supplier: LCSC; Convert to PCB: yes; Type: 厚膜电阻; Value: 147kΩ; Operating Temperature Range: -55℃~+155℃; Comment_1: 147kΩ
footprint R0603 (0603)
pins: 1, 2

## R0805_10KΩ
designator R??, comment 10kΩ
0805电阻; Manufacturer: UNI-ROYAL(厚声); Symbol: 0805W8F1403T5E; Add into BOM: yes; Tolerance: ±1%; Power(Watts): 125mW; Overload Voltage (Max): 150V; Temperature Coefficient: ±100ppm/℃; Device: 0805W8F1403T5E; LCSC Part Name: 140kΩ ±1% 125mW 厚膜电阻; Supplier Part: C17414; Manufacturer Part: 0805W8F1403T5E; Supplier Footprint: 0805; JLCPCB Part Class: Extended Part; Datasheet: https://atta.szlcsc.com/upload/public/pdf/source/20200306/C422600_1E6D84923E4A46A82E41ADD87F860B5C.pdf; Supplier: LCSC; Convert to PCB: yes; Type: 厚膜电阻; Value: 10kΩ; Operating Temperature Range: -55℃~+155℃; Comment_1: 10kΩ
footprint R0805
pins: 1, 2

## R0805_140KΩ
designator R??, comment 140kΩ
0805电阻; Manufacturer: UNI-ROYAL(厚声); Symbol: 0805W8F1403T5E; Add into BOM: yes; Tolerance: ±1%; Power(Watts): 125mW; Overload Voltage (Max): 150V; Temperature Coefficient: ±100ppm/℃; Device: 0805W8F1403T5E; LCSC Part Name: 140kΩ ±1% 125mW 厚膜电阻; Supplier Part: C17460; Manufacturer Part: 0805W8F1403T5E; Supplier Footprint: 0805; JLCPCB Part Class: Extended Part; Datasheet: https://atta.szlcsc.com/upload/public/pdf/source/20200306/C422600_1E6D84923E4A46A82E41ADD87F860B5C.pdf; Supplier: LCSC; Convert to PCB: yes; Type: 厚膜电阻; Value: 140kΩ; Operating Temperature Range: -55℃~+155℃; Comment_1: 140kΩ
footprint R0805
pins: 1, 2

## R1206_200mΩ
designator R??, comment 200mΩ
1206电阻; Manufacturer: UNI-ROYAL(厚声); Symbol: 1206W4F200LT5E; Add into BOM: yes; Tolerance: ±1%; Power(Watts): 250mW; Overload Voltage (Max): 200V; Temperature Coefficient: ±800ppm/℃; Device: 1206W4F200LT5E; LCSC Part Name: 200mΩ ±1% 250mW 厚膜电阻; Supplier Part: C25335; Manufacturer Part: 1206W4F200LT5E; Supplier Footprint: 1206; JLCPCB Part Class: Extended Part; Datasheet: https://atta.szlcsc.com/upload/public/pdf/source/20200306/C422600_1E6D84923E4A46A82E41ADD87F860B5C.pdf; Supplier: LCSC; Convert to PCB: yes; Type: 厚膜电阻; Value: 200mΩ; Operating Temperature Range: -55℃~+155℃; Comment_1: 200mΩ
footprint R1206_200mΩ (R1206)
pins: 1, 2

## SK6812
designator U??  (value not drawn)
光电LED; Manufacturer: 欧思科光电; Symbol: SK6812_C5378720; Add into BOM: yes; Name: SK6812; Device: SK6812_C5378720; LCSC Part Name: SK6812; Supplier Part: C5378720; Manufacturer Part: SK6812; Supplier Footprint: SMD-4P,5.4x5mm; JLCPCB Part Class: Extended Part; Datasheet: https://atta.szlcsc.com/upload/public/pdf/source/20230330/4C8DEAC234E2ECEEE596F166E9B92CF0.pdf; Supplier: LCSC; Convert to PCB: yes
footprint SK6812 (LED-SMD_4P-L5.0-W5.0-LS5.4-TL-1)
pins: 1 VDD, 2 DOUT, 3 VSS, 4 DIN

## SMD5_5.4_10uF
designator C??, comment 10uF
贴片型铝电解电容; Manufacturer: KNSCHA(科尼盛); Symbol: RST10UF50V016; Add into BOM: yes; Tolerance: ±20%; Rated Voltage: 50V; Ripple Current: 24mA@120Hz; φD: 5mm; L: 5.4mm; Lifetime @ Temp: 2000hrs@105℃; Device: RST10UF50V016; LCSC Part Name: 10uF ±20% 50V; Supplier Part: C4747971; Manufacturer Part: RST10UF50V016; Supplier Footprint: SMD,D5xL5.4mm; JLCPCB Part Class: Extended Part; Datasheet: https://atta.szlcsc.com/upload/public/pdf/source/20220722/47144637C831FC4476CE4962252D8002.pdf; Supplier: LCSC; Convert to PCB: yes; Value: 10uF; Equivalent Series Resistance(ESR): -; Operating Temperature: -40℃~+105℃; Comment_1: 10uF
footprint SMD5_5.4_10uF (CAP-SMD_BD5.0-L5.3-W5.3-FD)
pins: 1, 2

## SMD6.3_7.7_100uF
designator C??, comment 100uF
贴片型铝电解电容 容值 100uF 精度 ±20% 额定电压 35V 纹波电流 87mA@120kHz; Manufacturer: KNSCHA(科尼盛); Symbol: RVT100UF35V67RV0034; Add into BOM: yes; φD: 6.3mm; L: 7.7mm; Lifetime @ Temp: 2000hrs@105℃; Device: RVT100UF35V67RV0034; LCSC Part Name: 100uF ±20% 35V; Supplier Part: C2836442; Manufacturer Part: RVT100UF35V67RV0034; Supplier Footprint: SMD,D6.3xL7.7mm; JLCPCB Part Class: Extended Part; Datasheet: https://atta.szlcsc.com/upload/public/pdf/source/20210528/C2836442_7F6389BF36F63F32D6DF3A507E8E95D6.pdf; Supplier: LCSC; Convert to PCB: yes; Value: 100uF; Tolerance: ±20%; Rated Voltage: 35V; Ripple Current: 87mA@120kHz; Equivalent Series Resistance(ESR): -; Operating Temperature: -55℃~+105℃; Comment_1: 100uF
footprint SMD6.3_7.7_100uF (CAP-SMD_BD6.3-L6.6-W6.6-LS7.4-FD)
pins: 1, 2

## SMD6.3_10_180uF
designator C??, comment 180uF
贴片型铝电解电容; Manufacturer: PANASONIC(松下); Symbol: 16SVPE180M; Add into BOM: yes; Tolerance: ±20%; Rated Voltage: 16V; Ripple Current: 4.46A@100kHz; Equivalent Series Resistance(ESR): 11mΩ@100kHz; Type: 聚合物; φD: 6.3mm; L: 10mm; Lifetime @ Temp: 2000hrs@105℃; Device: 16SVPE180M; LCSC Part Name: 180uF ±20% 16V; Supplier Part: C88141; Manufacturer Part: 16SVPE180M; Supplier Footprint: SMD,D6.3xL10mm; JLCPCB Part Class: Extended Part; Datasheet: https://atta.szlcsc.com/upload/public/pdf/source/20171113/C88141_15105616557631116145.pdf; Supplier: LCSC; Convert to PCB: yes; Value: 180uF; Lead Spacing: -; Operating Temperature: -55℃~+105℃; Comment_1: 180uF
footprint SMD6.3_10_180uF (CAP-SMD_BD6.3-L6.6-W6.6-LS7.3-FD)
pins: 1, 2

## SN65HVD230DR
designator U??
CAN收发器; Manufacturer: TI(德州仪器); Add into BOM: yes; Data Rate: 1Mbps; Supply Voltage: 3V~3.6V; Symbol: SN65HVD230DR; Device: SN65HVD230DR; LCSC Part Name: 1Mbps 3V~3.6V; Supplier Part: C12084; Manufacturer Part: SN65HVD230DR; Supplier Footprint: SOIC-8; JLCPCB Part Class: Extended Part; Datasheet: https://www.ti.com/cn/lit/gpn/sn65hvd230; Supplier: LCSC; Convert to PCB: yes; Type: 收发器; Operating Temperature: -40℃~+85℃; Comment_1: SN65HVD230DR
footprint SN65HVD230DR (SOIC-8_L4.9-W3.9-P1.27-LS6.0-BL)
pins: 1 D, 2 GND, 3 VCC, 4 R, 5 VREF, 6 CANL, 7 CANH, 8 RS

## STM32F407ZGT6
designator U??
CPU内核：ARM-M4  程序存储容量：1MB  RAM总容量：192KB  GPIO端口数量：114  工作电压范围：1.8V~3.6V  CPU最大主频：168MHz  程序存储器类型：FLASH  工作温度范围：-40℃~+85℃  ADC(位数)：12bit  DAC(位数)：12bit; Manufacturer: ST(意法半导体); Add into BOM: yes; CPU Core: ARM-M4; Program Storage Size: 1MB; RAM Size: 192KB; GPIO Ports Number: 114; CPU Maximum Speed: 168MHz; Program Memory Type: FLASH; ADC (Bit): 12bit; Universal Serial Bus: 有; Peripheral/Function: DMA；LCD/LED驱动; Symbol: STM32F407ZGT6; Device: STM32F407ZGT6; LCSC Part Name: 带DSP和FPU的高性能基础系列ARM Cortex-M4 MCU，具有1 MB Flash、168 MHz CPU、ART加速器、以太网和FSMC; Supplier Part: C19156; Manufacturer Part: STM32F407ZGT6; Supplier Footprint: LQFP-144(20x20); JLCPCB Part Class: Extended Part; Datasheet: https://atta.szlcsc.com/upload/public/pdf/source/20140801/1457707197138.pdf; Supplier: LCSC; Convert to PCB: yes; Operating Voltage Range: 1.8V~3.6V; Operating Temperature Range: -40℃~+85℃; DAC (Bit): 12bit; PWM (Bit): -; Internal Comparator: -; communication protocol: -; Watchdog: 有; Real-Time Clock: -; Infrared Data Association: 有; Low-Voltage Detect: 有; CCP Capture/Compare: -; LCD Module: 有; Secure Digital Input and Output: -; Direct Memory Access: 有; Internal Oscillator: 有; Comment_1: STM32F407ZGT6
footprint STM32F407ZGT6 (LQFP-144_L20.0-W20.0-P0.50-LS22.0-BL)
part A pins: 1 PE2, 2 PE3, 3 PE4, 4 PE5, 5 PE6, 6 VBAT, 7 PC13, 8 PC14, 9 PC15, 10 PF0, 11 PF1, 12 PF2, 13 PF3, 14 PF4, 15 PF5, 16 VSS, 17 VDD, 18 PF6, 19 PF7, 20 PF8, 21 PF9, 22 PF10, 23 PH0, 24 PH1, 25 NRST, 26 PC0, 27 PC1, 28 PC2, 29 PC3, 30 VDD, 31 VSSA, 32 VREF+, 33 VDDA, 34 PA0, 35 PA1, 38 VSS, 39 VDD, 40 PA4, 41 PA5, 42 PA6, 48 PB2, 49 PF11, 51 VSS, 52 VDD, 55 PF15, 59 PE8, 60 PE9, 61 VSS, 62 VDD, 66 PE13, 70 PB11, 71 VCAP_1, 72 VDD, 73 PB12, 74 PB13, 78 PD9, 82 PD13, 83 VSS, 84 VDD, 88 PG3, 92 PG7, 94 VSS, 95 VDD, 97 PC7, 98 PC8, 99 PC9, 100 PA8, 101 PA9, 102 PA10, 103 PA11, 104 PA12, 105 PA13, 106 VCAP_2, 107 VSS, 108 VDD, 109 PA14, 110 PA15, 111 PC10, 112 PC11, 113 PC12, 114 PD0, 115 PD1, 116 PD2, 117 PD3, 118 PD4, 119 PD5, 120 VSS, 121 VDD, 122 PD6, 123 PD7, 124 PG9, 125 PG10, 126 PG11, 127 PG12, 128 PG13, 129 PG14, 130 VSS, 131 VDD, 132 PG15, 133 PB3, 134 PB4, 135 PB5, 136 PB6, 137 PB7, 138 BOOT0, 139 PB8, 140 PB9, 141 PE0, 142 PE1, 143 PDR_ON, 144 VDD
part B pins: 36 PA2, 37 PA3, 43 PA7, 44 PC4, 45 PC5, 46 PB0, 47 PB1, 50 PF12, 53 PF13, 54 PF14, 56 PG0, 57 PG1, 58 PE7, 63 PE10, 64 PE11, 65 PE12, 67 PE14, 68 PE15, 69 PB10, 75 PB14, 76 PB15, 77 PD8, 79 PD10, 80 PD11, 81 PD12, 85 PD14, 86 PD15, 87 PG2, 89 PG4, 90 PG5, 91 PG6, 93 PG8, 96 PC6

## Switch
designator SW??, comment GT-TC029B-H020-L1N  (value not drawn)
轻触开关   电路结构 单刀单掷   按钮形状 圆形按钮   作用力 2.5N   安装方式 立贴   开关长度 3.9mm   开关宽度 2.9mm   开关高度 2mm   带支架 不带   触点电流 50mA   额定电压(DC) 12V; Manufacturer: G-Switch(品赞); Add into BOM: yes; Insulation Resistance: 100MΩ; Actuator/Cap Color: 黑色; With Lamp: 无; Pin Style: SMD接片; Mechanical Life: 10万次; Symbol: GT-TC029B-H020-L1N; Device: GT-TC029B-H020-L1N; LCSC Part Name: 3.9*2.9*2mm 立贴 轻触开关; Supplier Part: C843665; Manufacturer Part: GT-TC029B-H020-L1N; Supplier Footprint: SMD; JLCPCB Part Class: Extended Part; Datasheet: https://atta.szlcsc.com/upload/public/pdf/source/20231124/F8327E72251744D4A6AAF7192EF342CB.pdf; Supplier: LCSC; Convert to PCB: yes; Circuit: 单刀单掷; Actuator Style: 圆形按钮; Operating Force: 2.5N; Mounting Style: 立贴; Switch Length: 3.9mm; Switch Width: 2.9mm; Switch Height: 2mm; Strike Gundam: 不带; Contact Current: 50mA; Voltage Rating (DC): 12V; Operating Temperature: -30℃~+85℃; Comment_1: GT-TC029B-H020-L1N
footprint Switch (SW-SMD_L3.9-W2.9-P4.15-LS5.0)
pins: 1, 2

## Testpoint
designator H??, comment PZ254V-11-01P  (value not drawn)
测试点; Manufacturer: XFCN(兴飞); Add into BOM: yes; Pin Structure: 1x1P; Pitch: 2.54mm; Circluar Pins/Square Pins: 方针; Symbol: PZ254V-11-01P; Device: PZ254V-11-01P; LCSC Part Name: 间距:2.54mm 1x1P 直插 方针; Supplier Part: C492400; Manufacturer Part: PZ254V-11-01P; Supplier Footprint: 插件,P=2.54mm; JLCPCB Part Class: Extended Part; Datasheet: https://atta.szlcsc.com/upload/public/pdf/source/20200309/C492400_46876A5B545F5AE6B8D4A09C46E276E8.pdf; Supplier: LCSC; Convert to PCB: yes; Row Spacing: -; Mounting Type: 直插; Number of Rows: 单排; Number of Pins: 1P; Current Rating (Max): -; Voltage Rating (Max): -; Length of Mating Pin: 6mm; Insulation Height: 2.5mm; Length of End Connection Pin: 3mm; Contact Material: 黄铜; Contact Plating: -; Operating Temperature Range: -40℃~+105℃; Color: 黑色; Comment_1: PZ254V-11-01P
footprint Testpoint (HDR-TH_1P-P2.54-V-M)
pins: 1

## TPS62932DRLR
designator U??
DCDC BUCK; Manufacturer: TI(德州仪器); Add into BOM: yes; Function: 降压型; Output Type: 可调; Input Voltage: 3.8V~30V; Output Voltage: 800mV~22V; Output Current (Max): 2A; Switching Frequency: 2.2MHz; Synchronous Rectification: 是; Number of Outputs: 1; Topology: 降压式; Switch tube (built-in/external): 内置; Symbol: TPS62932DRLR; Device: TPS62932DRLR; LCSC Part Name: TPS62932DRLR; Supplier Part: C3032935; Manufacturer Part: TPS62932DRLR; Supplier Footprint: SOT-5x3-8; JLCPCB Part Class: Extended Part; Datasheet: https://www.ti.com/cn/lit/gpn/tps62933; Supplier: LCSC; Convert to PCB: yes; Operating Temperature: -40℃~+150℃@(TJ); Comment_1: TPS62932DRLR
footprint TPS62932DRLR (SMD-8_L2.1-W1.2-P0.50-LS1.6-BL)
pins: 1 RT, 2 EN, 3 VIN, 4 GND, 5 SW, 6 BST, 7 SS, 8 FB

## XR76208ELTR-F
designator U??
电源模块; Manufacturer: MaxLinear(迈凌); Add into BOM: yes; Function: 降压型; Output Type: 可调; Input Voltage: 5V~40V; Output Voltage: 600mV~40V; Output Current (Max): 8A; Switching Frequency: 800kHz; Synchronous Rectification: 是; Number of Outputs: 1; Topology: 降压式; Switch tube (built-in/external): 内置; Symbol: XR76208ELTR-F; Device: XR76208ELTR-F; LCSC Part Name: XR76208ELTR-F; Supplier Part: C555356; Manufacturer Part: XR76208ELTR-F; Supplier Footprint: QFN-30(5x5); JLCPCB Part Class: Extended Part; Datasheet: https://atta.szlcsc.com/upload/public/pdf/source/20200515/C555356_E3973E51DE48FBA6B28D55F233E237FF.pdf; Supplier: LCSC; Convert to PCB: yes; Operating Temperature: -40℃~+125℃@(TJ); Comment_1: XR76208ELTR-F
footprint XR76208ELTR-F (QFN-30_L5.0-W5.0-P0.50-BL_XR76208XX)
pins: 1 ILIM, 2 EN, 3 TON, 4 SS, 5 PGOOD, 6 FB, 7 AGND, 8 VIN, 9 VCC, 10 AGND, 11 SW, 12 SW, 13 SW, 14 SW, 15 PGND, 16 PGND, 17 PGND, 18 PGND, 19 PGND, 20 SW, 21 PVIN, 22 PVIN, 23 PVIN, 24 PVIN, 25 PVIN, 26 PVIN, 27 PVIN, 28 PVIN, 29 SW, 30 BST, 31 AGND

## XT60PW-F
designator U??  (value not drawn)
卧式插头; Manufacturer: AMASS(艾迈斯); Symbol: XT60PW-F_C428722; Add into BOM: yes; InterfaceType: 母头; Device: XT60PW-F; LCSC Part Name: AMASS(艾迈斯)插头连接器锂电池组充电接口 航模电调卧式焊板 母头 XT60PW-F; Supplier Part: C428722; Manufacturer Part: XT60PW-F; Supplier Footprint: -; JLCPCB Part Class: Extended Part; Datasheet: https://atta.szlcsc.com/upload/public/pdf/source/20190916/C428722_DFF78979486FCB0B58C1FC563067EC88.pdf; Supplier: LCSC; Convert to PCB: yes; Power: -; Output: -; Input: -; Size: -; Interface: -; Type: 卧式插头; Colour: 黄色; MaximumCurrent: -; RatedVoltage: -; Type1: -; NumberOfUSBHoles: -; MetalMaterial: -; InsulationMaterial: -; RatedCurrent: -; RecommendedWireGauge: -; FlameRetardantGrade: -; contact resistance: -; Belt length: -; specifications: -; Comment_1: XT60PW-F
footprint XT60PW-F (TH_2P-XT60PW-F)
pins: 1, 2, 3, 4

## ZX-XH2.54-2PZZ
designator CN??  (value not drawn)
直插插针; Manufacturer: Megastar(兆星); Add into BOM: yes; Pins Structure: 1x2P; Pitch: 2.54mm; Reference Series: XH; Number of PINs Per Row: 2; Current Rating (Max): 3A; Symbol: ZX-XH2.54-2PZZ; Device: ZX-XH2.54-2PZZ; LCSC Part Name: ZX-XH2.54-2PZZ; Supplier Part: C7429632; Manufacturer Part: ZX-XH2.54-2PZZ; Supplier Footprint: 插件,P=2.54mm; JLCPCB Part Class: Extended Part; Datasheet: https://atta.szlcsc.com/upload/public/pdf/source/20230619/19BA6947230AA44A04D3EDD65E618FD0.pdf; Supplier: LCSC; Convert to PCB: yes; Mounting Style: 直插; Number of Pins: 2P; Number of Rows: 1; Row Spacing: -; Contact Material: 黄铜; Contact Plating: 锡; Operating Temperature Range: -25℃~+85℃; Comment_1: ZX-XH2.54-2PZZ
footprint ZX-XH2.54-2PZZ (CONN-TH_2P-P2.50_HX25003-2A)
pins: 1, 2

## ZX-XH2.54-4PZZ
designator CN??  (value not drawn)
直插插针; Manufacturer: Megastar(兆星); Add into BOM: yes; Pins Structure: 1x4P; Pitch: 2.54mm; Reference Series: XH; Number of PINs Per Row: 4; Current Rating (Max): 3A; Symbol: ZX-XH2.54-4PZZ; Device: ZX-XH2.54-4PZZ; LCSC Part Name: ZX-XH2.54-4PZZ; Supplier Part: C7429634; Manufacturer Part: ZX-XH2.54-4PZZ; Supplier Footprint: 插件,P=2.54mm; JLCPCB Part Class: Extended Part; Datasheet: https://atta.szlcsc.com/upload/public/pdf/source/20230619/B529A2163E0159A644AB3383D208FB03.pdf; Supplier: LCSC; Convert to PCB: yes; Mounting Style: 直插; Number of Pins: 4P; Number of Rows: 1; Row Spacing: -; Contact Material: 黄铜; Contact Plating: 锡; Operating Temperature Range: -25℃~+85℃; Comment_1: ZX-XH2.54-4PZZ
footprint ZX-XH2.54-4PZZ (CONN-TH_4P-P2.50_4PIN)
pins: 1, 2, 3, 4